# Altium schematic symbol library GRM21BC80G107ME15L.SchLib: 1 symbol
Pins are listed as number, name and electrical type; pins without a type are passive.

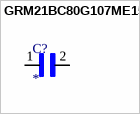
[diagram p0: symbol GRM21BC80G107ME15L]

## GRM21BC80G107ME15L
designator C?
100ÂµF Â±20% 4V Ceramic Capacitor X6S 0805 (2012 Metric); MF: Murata Electronics; MP: GRM21BC80G107ME15L; Package: 2012 Murata; Price: None; Check_prices: https://www.snapeda.com/parts/GRM21BC80G107ME15L/Murata+Electronics+North+America/view-part/?ref=eda; Value: *; SnapEDA_Link: https://www.snapeda.com/parts/GRM21BC80G107ME15L/Murata+Electronics+North+America/view-part/?ref=snap; Availability: In Stock; Purchase-URL: https://pricing.snapeda.com/search?q=GRM21BC80G107ME15L&ref=eda
footprint CAPC2012X145N
pins: 1, 2